# EAGLE library part PULSE_H11XXNL (library eth_transformers)
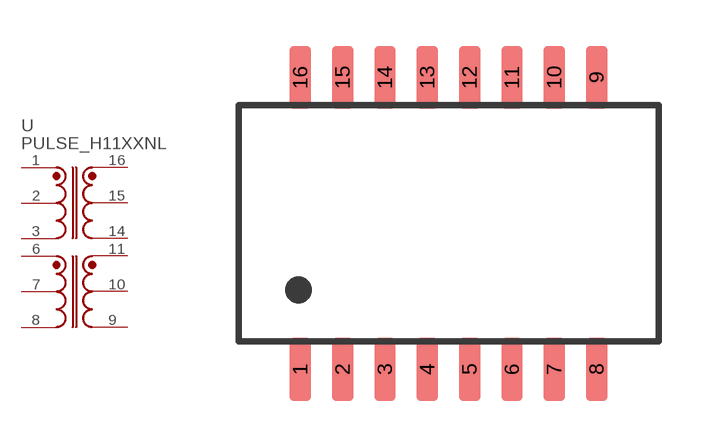
[diagram p0: symbol with the pads of ETH_TRANSFORMER_1PORT; footprint ETH_TRANSFORMER_1PORT]

Designator prefix -

## PULSE_H11XXNL  [ETH_TRANSFORMER_1PORT]
1  T1_P_A
2  T1_P_CT
3  T1_P_B
6  T2_P_A
7  T2_P_CT
8  T2_P_B
9  T2_S_B
10  T2_S_CT
11  T2_S_A
14  T1_S_B
15  T1_S_CT
16  T1_S_A

## Footprint ETH_TRANSFORMER_1PORT (pad centres in mm)
smd 0.64 x 1.905: 1 -4.445,-4.383; 2 -3.175,-4.383; 3 -1.905,-4.383; 4 -0.635,-4.383; 5 0.635,-4.383; 6 1.905,-4.383; 7 3.175,-4.383; 8 4.445,-4.383; 9 4.445,4.383; 10 3.175,4.383; 11 1.905,4.383; 12 0.635,4.383; 13 -0.635,4.383; 14 -1.905,4.383; 15 -3.175,4.383; 16 -4.445,4.383